# Altium schematic symbol library ACJS-MHOM.SchLib: 1 symbol
Pins are listed as number, name and electrical type; pins without a type are passive.

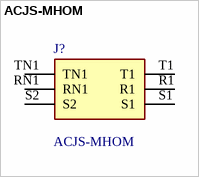
[diagram p0: symbol ACJS-MHOM]

## ACJS-MHOM
designator J?
6.35mm (0.250", 1/4") - Headphone Phone Jack Stereo (3 Conductor, TRS) Connector Press-Fit, Solder; Manufacturer_Name: Amphenol Sine Systems; Geometry.Height: 12.9mm; Manufacturer_Part_Number: ACJS-MHOM; Mouser Part Number: 523-ACJS-MHOM; Mouser Price/Stock: https://www.mouser.co.uk/ProductDetail/Amphenol-Audio/ACJS-MHOM?qs=t8VhaDIDl4vZ9ROsgrVY0w%3D%3D; Arrow Part Number: *; Arrow Price/Stock: *; Datasheet Link: https://www.amphenol-industrial.de/media/pages/produkte/audio-steckverbinder/1-4-phone-jack-3-5mm/geratedose-3-polig-acjsmhom/8cc87383e3-1710307780/cdr-u-sap-uploads-dokumente-zu-materialnummern-20210623-audio-cdr-acjs-mhom.pdf
footprint ACJSMHOM
pins: R1, RN1, S1, S2, T1, TN1